# Altium footprint library Dr_lib .PcbLib: 38 footprints (part 3 of 3)
Each footprint in its own frame and in the unit in brackets; x right, y up, seen from the top. Pads: shape width x height; smd on the part's side, far side on the other; paste and mask are expansions set on the pad; w line width, h text height; cw(c..) or ccw(c..) is an arc to the next point about the centre after c.
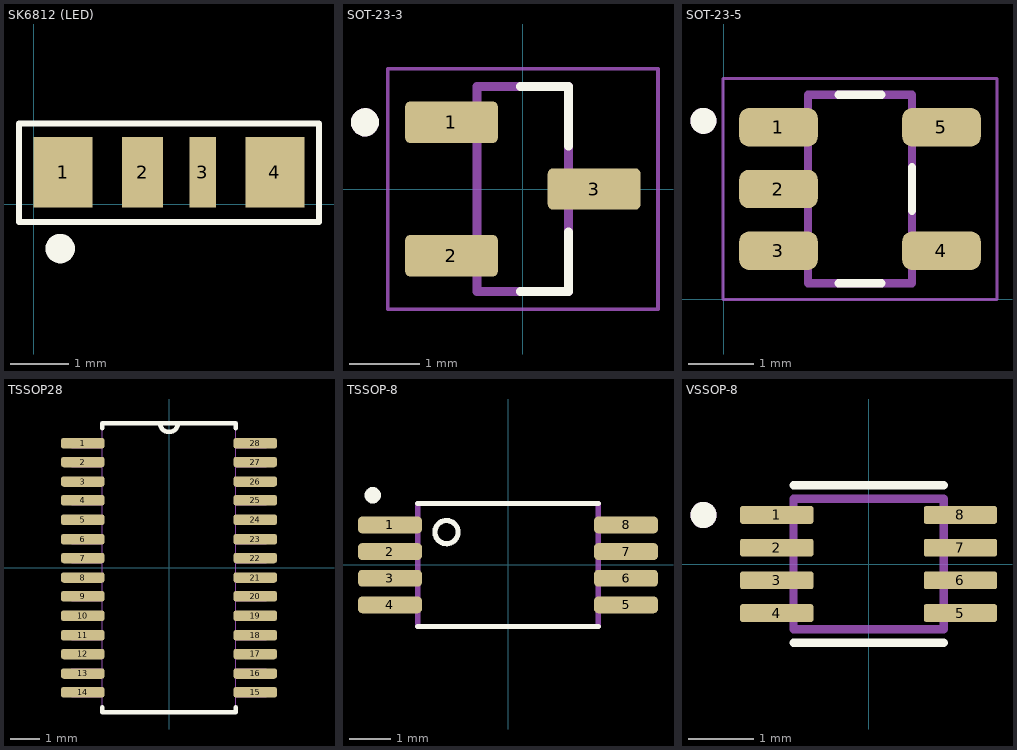
[diagram p2: the footprints below, top view; thin cyan lines are the x and y axes]

## SK6812 (LED) [mm]
pads (4):
  rect 1x1.2 smd: 1(0.5,0.55) 4(4.1,0.55)
  rect 0.7x1.2 smd: 2(1.85,0.55)
  rect 0.45x1.2 smd: 3(2.875,0.55)
Top Overlay:
  circle w0.3: c0.45,-0.75 r0.1
  lines w0.1: -0.25,-0.3 4.85,-0.3 4.85,1.375 -0.25,1.375 -0.25,-0.3
3D body "SK6812 SIDE-A--3DModel-STEP-269445.STEP": height 2.05, standoff 0, extent 0.25,-0.375 4.25,1.225

## SOT-23-3 [mm]
pads (3):
  rrect25% 1.32x0.59 smd: 1(-1.015,0.95) 2(-1.015,-0.95) 3(1.015,0)
Top Overlay:
  circle w0.2: c-2.246,0.95 r0.1
  lines w0.127: -0.035,-1.46 0.65,-1.46 0.65,-0.615 ; -0.035,1.46 0.65,1.46 0.65,0.615
Mechanical 13:
  circle w0.2: c-2.246,0.95 r0.1
  lines w0.127: -0.65,-1.46 -0.65,1.46 0.65,1.46 0.65,-1.46 -0.65,-1.46
Mechanical 15:
  lines w0.05: -1.925,-1.71 -1.925,1.71 1.925,1.71 1.925,-1.71 -1.925,-1.71
3D body "step_temp.STEP": height 1.12, standoff 0, extent -1.185,-1.46 1.185,1.46

## SOT-23-5 [mm]
pads (5):
  rrect50% 1.21x0.59 smd: 1(0.845,2.65) 2(0.845,1.7) 3(0.845,0.75) 4(3.355,0.75) 5(3.355,2.65)
Top Overlay:
  circle w0.2: c-0.31,2.75 r0.1
  lines w0.127: 1.77,0.25 2.43,0.25 ; 1.77,3.15 2.43,3.15 ; 2.9,1.365 2.9,2.035
Mechanical 13:
  circle w0.2: c-0.31,2.75 r0.1
  lines w0.127: 1.3,0.25 1.3,3.15 2.9,3.15 2.9,0.25 1.3,0.25
Mechanical 15:
  lines w0.05: -0.01,0 4.21,0 4.21,3.4 -0.01,3.4 -0.01,0
3D body "SN74LV1T34DBVR.STEP": height 1.45, standoff 0, extent 0.7,0.25 3.5,3.15

## TSSOP28 [mil]
pads (28):
  rrect50% 58x14 smd mask+1.97: 1(-115,166) 2(-115,141) 3(-115,115) 4(-115,90) 5(-115,64) 6(-115,38) 7(-115,13) 8(-115,-13) 9(-115,-38) 10(-115,-64) 11(-115,-90) 12(-115,-115) 13(-115,-141) 14(-115,-166) 15(115,-166) 16(115,-141) 17(115,-115) 18(115,-90) 19(115,-64) 20(115,-38) 21(115,-13) 22(115,13) 23(115,38) 24(115,64) 25(115,90) 26(115,115) 27(115,141) 28(115,166)
Top Overlay:
  lines w6: -89,-186 -89,-193 89,-193 89,-186 ; -89,186 -89,193 -12,193 ; 89,186 89,193 12,193 ; -12,193 ccw(c0,193) 12,193 ; -12,193 12,193
Mechanical 13:
  lines w0: -12,193 ccw(c0,193) 12,193 ; -12,193 -89,193 -89,-193 89,-193 89,193 12,193 ; -12,193 12,193 ; -130,-172 -89,-172 -89,-160 -130,-160 -130,-172 ; -130,-147 -89,-147 -89,-135 -130,-135 -130,-147 ; -130,-121 -89,-121 -89,-109 -130,-109 -130,-121 ; -130,-96 -89,-96 -89,-84 -130,-84 -130,-96 ; -130,-70 -89,-70 -89,-58 -130,-58 -130,-70 ; -130,-44 -89,-44 -89,-32 -130,-32 -130,-44 ; -130,-19 -89,-19 -89,-7 -130,-7 -130,-19 ; -130,7 -89,7 -89,19 -130,19 -130,7 ; -130,32 -89,32 -89,44 -130,44 -130,32 ; -130,58 -89,58 -89,70 -130,70 -130,58 ; -130,84 -89,84 -89,96 -130,96 -130,84 ; -130,109 -89,109 -89,121 -130,121 -130,109 ; -130,135 -89,135 -89,147 -130,147 -130,135 ; -130,160 -89,160 -89,172 -130,172 -130,160 ; 89,-172 130,-172 130,-160 89,-160 89,-172 ; 89,-147 130,-147 130,-135 89,-135 89,-147 ; 89,-121 130,-121 130,-109 89,-109 89,-121 ; 89,-96 130,-96 130,-84 89,-84 89,-96 ; 89,-70 130,-70 130,-58 89,-58 89,-70 ; 89,-44 130,-44 130,-32 89,-32 89,-44 ; 89,-19 130,-19 130,-7 89,-7 89,-19 ; 89,7 130,7 130,19 89,19 89,7 ; 89,32 130,32 130,44 89,44 89,32 ; 89,58 130,58 130,70 89,70 89,58 ; 89,84 130,84 130,96 89,96 89,84 ; 89,109 130,109 130,121 89,121 89,109 ; 89,135 130,135 130,147 89,147 89,135 ; 89,160 130,160 130,172 89,172 89,160
3D body "PCA9685PW_Q900.STEP": height 43.31, standoff 0, extent -124.02,-190.94 127.95,190.94

## TSSOP-8 [mm]
pads (8):
  rrect50% 1.56x0.41 smd mask+0.05: 1(-2.88,0.975) 2(-2.88,0.325) 3(-2.88,-0.325) 4(-2.88,-0.975) 5(2.88,-0.975) 6(2.88,-0.325) 7(2.88,0.325) 8(2.88,0.975)
Top Overlay:
  circle w0.2: c-3.3,1.7 r0.1
  circle w0.127: c-1.5,0.8 r0.283
  lines w0.127: -2.2,-1.5 2.2,-1.5 ; -2.2,1.5 2.2,1.5
Mechanical 13:
  lines w0.127: -2.2,-1.5 2.2,-1.5 2.2,1.5 -2.2,1.5 -2.2,-1.5
3D body "M24C32-DRDW8TP_K.STEP": height 1.2, standoff 0, extent -3.2,-1.5 3.2,1.5

## VSSOP-8 [mm]
pads (8):
  rrect25% 1.12x0.27 smd mask+0.05: 1(-1.405,0.75) 2(-1.405,0.25) 3(-1.405,-0.25) 4(-1.405,-0.75) 5(1.405,-0.75) 6(1.405,-0.25) 7(1.405,0.25) 8(1.405,0.75)
Top Overlay:
  circle w0.2: c-2.525,0.75 r0.1
  lines w0.127: -1.15,-1.205 1.15,-1.205 ; -1.15,1.205 1.15,1.205
Mechanical 13:
  circle w0.2: c-2.525,0.75 r0.1
  lines w0.127: -1.15,-1 -1.15,1 1.15,1 1.15,-1 -1.15,-1
3D body "TXS0102DCUR--3DModel-STEP-1.STEP": height 0.9, standoff 0, extent -1.55,-1 1.55,1